# EAGLE library part STM32F429BIT6 (library Alpha-IC)
STM32F429 Cortex-M4 CPU 180 MHz, 256 KB RAM, 2 MB Flash
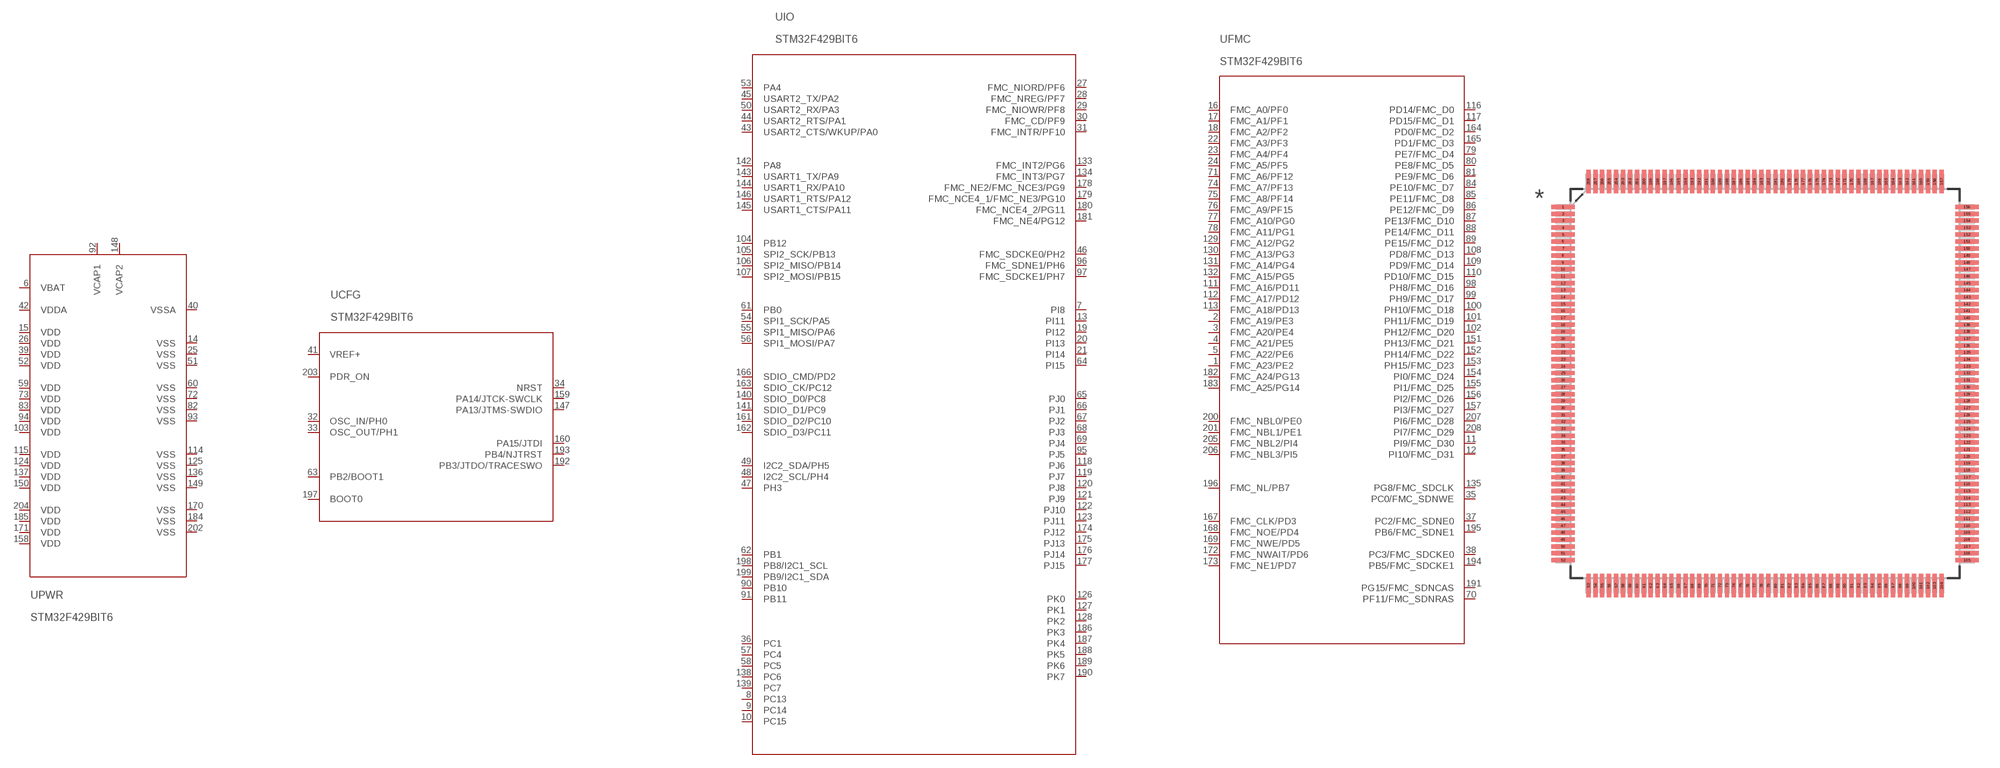
[diagram p1: symbol with the pads of LQFP-208; footprint LQFP-208]

Designator prefix U; gates IO=STM32F429_LQFP-208_IO CFG=STM32F429_LQFP-208_CFG PWR=STM32F429_LQFP-208_PWR FMC=STM32F429_LQFP-208_FMC

## STM32F429BIT6 (OC_FARNELL: 2469581)  [LQFP-208]
1  FMC:FMC_A23/PE2
2  FMC:FMC_A19/PE3
3  FMC:FMC_A20/PE4
4  FMC:FMC_A21/PE5
5  FMC:FMC_A22/PE6
6  PWR:VBAT  pwr
7  IO:PI8
8  IO:PC13
9  IO:PC14
10  IO:PC15
11  FMC:PI9/FMC_D30
12  FMC:PI10/FMC_D31
13  IO:PI11
14  PWR:VSS  pwr
15  PWR:VDD  pwr
16  FMC:FMC_A0/PF0
17  FMC:FMC_A1/PF1
18  FMC:FMC_A2/PF2
19  IO:PI12
20  IO:PI13
21  IO:PI14
22  FMC:FMC_A3/PF3
23  FMC:FMC_A4/PF4
24  FMC:FMC_A5/PF5
25  PWR:VSS  pwr
26  PWR:VDD  pwr
27  IO:FMC_NIORD/PF6
28  IO:FMC_NREG/PF7
29  IO:FMC_NIOWR/PF8
30  IO:FMC_CD/PF9
31  IO:FMC_INTR/PF10
32  CFG:OSC_IN/PH0
33  CFG:OSC_OUT/PH1
34  CFG:NRST  in
35  FMC:PC0/FMC_SDNWE
36  IO:PC1
37  FMC:PC2/FMC_SDNE0
38  FMC:PC3/FMC_SDCKE0
39  PWR:VDD  pwr
40  PWR:VSSA  pwr
41  CFG:VREF+  pwr
42  PWR:VDDA  pwr
43  IO:USART2_CTS/WKUP/PA0
44  IO:USART2_RTS/PA1
45  IO:USART2_TX/PA2
46  IO:FMC_SDCKE0/PH2
47  IO:PH3
48  IO:I2C2_SCL/PH4
49  IO:I2C2_SDA/PH5
50  IO:USART2_RX/PA3
51  PWR:VSS  pwr
52  PWR:VDD  pwr
53  IO:PA4
54  IO:SPI1_SCK/PA5
55  IO:SPI1_MISO/PA6
56  IO:SPI1_MOSI/PA7
57  IO:PC4
58  IO:PC5
59  PWR:VDD  pwr
60  PWR:VSS  pwr
61  IO:PB0
62  IO:PB1
63  CFG:PB2/BOOT1
64  IO:PI15
65  IO:PJ0
66  IO:PJ1
67  IO:PJ2
68  IO:PJ3
69  IO:PJ4
70  FMC:PF11/FMC_SDNRAS
71  FMC:FMC_A6/PF12
72  PWR:VSS  pwr
73  PWR:VDD  pwr
74  FMC:FMC_A7/PF13
75  FMC:FMC_A8/PF14
76  FMC:FMC_A9/PF15
77  FMC:FMC_A10/PG0
78  FMC:FMC_A11/PG1
79  FMC:PE7/FMC_D4
80  FMC:PE8/FMC_D5
81  FMC:PE9/FMC_D6
82  PWR:VSS  pwr
83  PWR:VDD  pwr
84  FMC:PE10/FMC_D7
85  FMC:PE11/FMC_D8
86  FMC:PE12/FMC_D9
87  FMC:PE13/FMC_D10
88  FMC:PE14/FMC_D11
89  FMC:PE15/FMC_D12
90  IO:PB10
91  IO:PB11
92  PWR:VCAP1
93  PWR:VSS  pwr
94  PWR:VDD  pwr
95  IO:PJ5
96  IO:FMC_SDNE1/PH6
97  IO:FMC_SDCKE1/PH7
98  FMC:PH8/FMC_D16
99  FMC:PH9/FMC_D17
100  FMC:PH10/FMC_D18
101  FMC:PH11/FMC_D19
102  FMC:PH12/FMC_D20
103  PWR:VDD  pwr
104  IO:PB12
105  IO:SPI2_SCK/PB13
106  IO:SPI2_MISO/PB14
107  IO:SPI2_MOSI/PB15
108  FMC:PD8/FMC_D13
109  FMC:PD9/FMC_D14
110  FMC:PD10/FMC_D15
111  FMC:FMC_A16/PD11
112  FMC:FMC_A17/PD12
113  FMC:FMC_A18/PD13
114  PWR:VSS  pwr
115  PWR:VDD  pwr
116  FMC:PD14/FMC_D0
117  FMC:PD15/FMC_D1
118  IO:PJ6
119  IO:PJ7
120  IO:PJ8
121  IO:PJ9
122  IO:PJ10
123  IO:PJ11
124  PWR:VDD  pwr
125  PWR:VSS  pwr
126  IO:PK0
127  IO:PK1
128  IO:PK2
129  FMC:FMC_A12/PG2
130  FMC:FMC_A13/PG3
131  FMC:FMC_A14/PG4
132  FMC:FMC_A15/PG5
133  IO:FMC_INT2/PG6
134  IO:FMC_INT3/PG7
135  FMC:PG8/FMC_SDCLK
136  PWR:VSS  pwr
137  PWR:VDD  pwr
138  IO:PC6
139  IO:PC7
140  IO:SDIO_D0/PC8
141  IO:SDIO_D1/PC9
142  IO:PA8
143  IO:USART1_TX/PA9
144  IO:USART1_RX/PA10
145  IO:USART1_CTS/PA11
146  IO:USART1_RTS/PA12
147  CFG:PA13/JTMS-SWDIO
148  PWR:VCAP2
149  PWR:VSS  pwr
150  PWR:VDD  pwr
151  FMC:PH13/FMC_D21
152  FMC:PH14/FMC_D22
153  FMC:PH15/FMC_D23
154  FMC:PI0/FMC_D24
155  FMC:PI1/FMC_D25
156  FMC:PI2/FMC_D26
157  FMC:PI3/FMC_D27
158  PWR:VDD  pwr
159  CFG:PA14/JTCK-SWCLK
160  CFG:PA15/JTDI
161  IO:SDIO_D2/PC10
162  IO:SDIO_D3/PC11
163  IO:SDIO_CK/PC12
164  FMC:PD0/FMC_D2
165  FMC:PD1/FMC_D3
166  IO:SDIO_CMD/PD2
167  FMC:FMC_CLK/PD3
168  FMC:FMC_NOE/PD4
169  FMC:FMC_NWE/PD5
170  PWR:VSS  pwr
171  PWR:VDD  pwr
172  FMC:FMC_NWAIT/PD6
173  FMC:FMC_NE1/PD7
174  IO:PJ12
175  IO:PJ13
176  IO:PJ14
177  IO:PJ15
178  IO:FMC_NE2/FMC_NCE3/PG9
179  IO:FMC_NCE4_1/FMC_NE3/PG10
180  IO:FMC_NCE4_2/PG11
181  IO:FMC_NE4/PG12
182  FMC:FMC_A24/PG13
183  FMC:FMC_A25/PG14
184  PWR:VSS  pwr
185  PWR:VDD  pwr
186  IO:PK3
187  IO:PK4
188  IO:PK5
189  IO:PK6
190  IO:PK7
191  FMC:PG15/FMC_SDNCAS
192  CFG:PB3/JTDO/TRACESWO
193  CFG:PB4/NJTRST
194  FMC:PB5/FMC_SDCKE1
195  FMC:PB6/FMC_SDNE1
196  FMC:FMC_NL/PB7
197  CFG:BOOT0  in
198  IO:PB8/I2C1_SCL
199  IO:PB9/I2C1_SDA
200  FMC:FMC_NBL0/PE0
201  FMC:FMC_NBL1/PE1
202  PWR:VSS  pwr
203  CFG:PDR_ON
204  PWR:VDD  pwr
205  FMC:FMC_NBL2/PI4
206  FMC:FMC_NBL3/PI5
207  FMC:PI6/FMC_D28
208  FMC:PI7/FMC_D29

## Footprint LQFP-208 (pad centres in mm)
smd 1.7 x 0.3: 1 -14.58,12.751; 2 -14.58,12.243; 3 -14.58,11.76; 4 -14.58,11.252; 5 -14.58,10.744; 6 -14.58,10.262; 7 -14.58,9.754; 8 -14.58,9.246; 9 -14.58,8.738; 10 -14.58,8.255; 11 -14.58,7.747; 12 -14.58,7.239; 13 -14.58,6.756; 14 -14.58,6.248; 15 -14.58,5.74; 16 -14.58,5.258; 17 -14.58,4.75; 18 -14.58,4.242; 19 -14.58,3.759; 20 -14.58,3.251; 21 -14.58,2.743; 22 -14.58,2.261; 23 -14.58,1.753; 24 -14.58,1.245; 25 -14.58,0.762; 26 -14.58,0.254; 27 -14.58,-0.254; 28 -14.58,-0.762; 29 -14.58,-1.245; 30 -14.58,-1.753; 31 -14.58,-2.261; 32 -14.58,-2.743; 33 -14.58,-3.251; 34 -14.58,-3.759; 35 -14.58,-4.242; 36 -14.58,-4.75; 37 -14.58,-5.258; 38 -14.58,-5.74; 39 -14.58,-6.248; 40 -14.58,-6.756; 41 -14.58,-7.239; 42 -14.58,-7.747; 43 -14.58,-8.255; 44 -14.58,-8.738; 45 -14.58,-9.246; 46 -14.58,-9.754; 47 -14.58,-10.262; 48 -14.58,-10.744; 49 -14.58,-11.252; 50 -14.58,-11.76; 51 -14.58,-12.243; 52 -14.58,-12.751; 105 14.58,-12.751; 106 14.58,-12.243; 107 14.58,-11.76; 108 14.58,-11.252; 109 14.58,-10.744; 110 14.58,-10.262; 111 14.58,-9.754; 112 14.58,-9.246; 113 14.58,-8.738; 114 14.58,-8.255; 115 14.58,-7.747; 116 14.58,-7.239; 117 14.58,-6.756; 118 14.58,-6.248; 119 14.58,-5.74; 120 14.58,-5.258; 121 14.58,-4.75; 122 14.58,-4.242; 123 14.58,-3.759; 124 14.58,-3.251; 125 14.58,-2.743; 126 14.58,-2.261; 127 14.58,-1.753; 128 14.58,-1.245; 129 14.58,-0.762; 130 14.58,-0.254; 131 14.58,0.254; 132 14.58,0.762; 133 14.58,1.245; 134 14.58,1.753; 135 14.58,2.261; 136 14.58,2.743; 137 14.58,3.251; 138 14.58,3.759; 139 14.58,4.242; 140 14.58,4.75; 141 14.58,5.258; 142 14.58,5.74; 143 14.58,6.248; 144 14.58,6.756; 145 14.58,7.239; 146 14.58,7.747; 147 14.58,8.255; 148 14.58,8.738; 149 14.58,9.246; 150 14.58,9.754; 151 14.58,10.262; 152 14.58,10.744; 153 14.58,11.252; 154 14.58,11.76; 155 14.58,12.243; 156 14.58,12.751
smd 0.3 x 1.7: 53 -12.751,-14.58; 54 -12.243,-14.58; 55 -11.76,-14.58; 56 -11.252,-14.58; 57 -10.744,-14.58; 58 -10.262,-14.58; 59 -9.754,-14.58; 60 -9.246,-14.58; 61 -8.738,-14.58; 62 -8.255,-14.58; 63 -7.747,-14.58; 64 -7.239,-14.58; 65 -6.756,-14.58; 66 -6.248,-14.58; 67 -5.74,-14.58; 68 -5.258,-14.58; 69 -4.75,-14.58; 70 -4.242,-14.58; 71 -3.759,-14.58; 72 -3.251,-14.58; 73 -2.743,-14.58; 74 -2.261,-14.58; 75 -1.753,-14.58; 76 -1.245,-14.58; 77 -0.762,-14.58; 78 -0.254,-14.58; 79 0.254,-14.58; 80 0.762,-14.58; 81 1.245,-14.58; 82 1.753,-14.58; 83 2.261,-14.58; 84 2.743,-14.58; 85 3.251,-14.58; 86 3.759,-14.58; 87 4.242,-14.58; 88 4.75,-14.58; 89 5.258,-14.58; 90 5.74,-14.58; 91 6.248,-14.58; 92 6.756,-14.58; 93 7.239,-14.58; 94 7.747,-14.58; 95 8.255,-14.58; 96 8.738,-14.58; 97 9.246,-14.58; 98 9.754,-14.58; 99 10.262,-14.58; 100 10.744,-14.58; 101 11.252,-14.58; 102 11.76,-14.58; 103 12.243,-14.58; 104 12.751,-14.58; 157 12.751,14.58; 158 12.243,14.58; 159 11.76,14.58; 160 11.252,14.58; 161 10.744,14.58; 162 10.262,14.58; 163 9.754,14.58; 164 9.246,14.58; 165 8.738,14.58; 166 8.255,14.58; 167 7.747,14.58; 168 7.239,14.58; 169 6.756,14.58; 170 6.248,14.58; 171 5.74,14.58; 172 5.258,14.58; 173 4.75,14.58; 174 4.242,14.58; 175 3.759,14.58; 176 3.251,14.58; 177 2.743,14.58; 178 2.261,14.58; 179 1.753,14.58; 180 1.245,14.58; 181 0.762,14.58; 182 0.254,14.58; 183 -0.254,14.58; 184 -0.762,14.58; 185 -1.245,14.58; 186 -1.753,14.58; 187 -2.261,14.58; 188 -2.743,14.58; 189 -3.251,14.58; 190 -3.759,14.58; 191 -4.242,14.58; 192 -4.75,14.58; 193 -5.258,14.58; 194 -5.74,14.58; 195 -6.248,14.58; 196 -6.756,14.58; 197 -7.239,14.58; 198 -7.747,14.58; 199 -8.255,14.58; 200 -8.738,14.58; 201 -9.246,14.58; 202 -9.754,14.58; 203 -10.262,14.58; 204 -10.744,14.58; 205 -11.252,14.58; 206 -11.76,14.58; 207 -12.243,14.58; 208 -12.751,14.58